# Altium footprint library DO-214.PcbLib: 2 footprints
Each footprint in its own frame and in the unit in brackets; x right, y up, seen from the top. Pads: shape width x height; smd on the part's side, far side on the other; paste and mask are expansions set on the pad; w line width, h text height; cw(c..) or ccw(c..) is an arc to the next point about the centre after c.
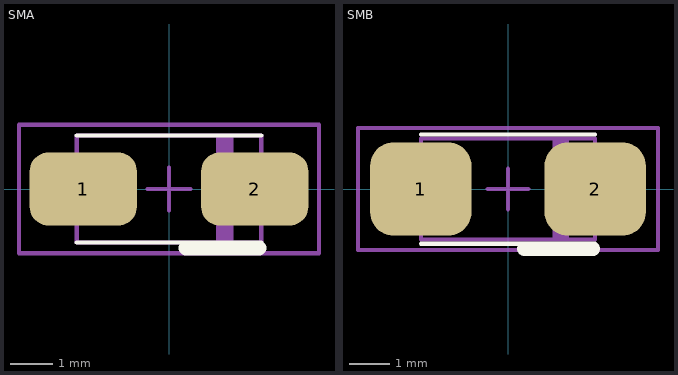
[diagram p0: the footprints below, top view; thin cyan lines are the x and y axes]

## SMA [mm] "Surface Mount Diode"
height 2.3
pads (2):
  rrect50% 2.5x1.7 smd: 1(-2,0) 2(2,0)
Top Overlay:
  lines w0.1: -2.15,-1.25 2.15,-1.25 ; -2.149,1.249 2.15,1.249
  lines w0.35: 0.4,-1.375 2.1,-1.375
Mechanical 13:
  rectangle: 1.1,-1.25 1.5,1.25
  lines w0.1: -2.15,-1.25 -2.15,1.25 2.15,1.25 2.15,-1.25 -2.15,-1.25
Mechanical 15:
  lines w0.1: -0.5,0 0.5,0 ; 0,-0.5 0,0.5 ; -3.5,-1.5 -3.5,1.5 3.5,1.5 3.5,-1.5 -3.5,-1.5
3D body: height 2.15, standoff 0, extent -2.149,-1.249 2.149,1.249

## SMB [mm] "Surface Mount Diode"
height 2.3
pads (2):
  rrect50% 2.5x2.3 smd: 1(-2.15,0) 2(2.15,0)
Top Overlay:
  lines w0.1: -2.15,-1.35 2.15,-1.35 ; -2.149,1.349 2.15,1.349
  lines w0.35: 0.4,-1.475 2.1,-1.475
Mechanical 13:
  rectangle: 1.1,-1.25 1.5,1.25
  lines w0.1: -2.15,-1.25 2.15,-1.25 2.15,1.25 -2.15,1.25 -2.15,-1.25
Mechanical 15:
  lines w0.1: -0.5,0 0.5,0 ; 0,-0.5 0,0.5 ; -3.7,-1.5 3.7,-1.5 3.7,1.5 -3.7,1.5 -3.7,-1.5
3D body: height 2.15, standoff 0, extent -2.149,-1.249 2.149,1.249